# EAGLE library part 615032243321 (library 632723100011_Eagle_WR-USB_rev19b)
WR-MJ Horizontal Shielded 2 x Dual Stacked Port with EMI Panel Finger 8P8C M. Jack Tab Up & Down, 32 Pins=>Code : Con_I-O_MJ-H_Shielded_Up-Down_615032243321 <http://katalog.we-online.de/media/images/eican/Con_I-O_MJ-H_Shielded_Up-Down_615032243321_pf2.jpg> Details see: http://katalog.we-online.de/en/em/MJ_HORIZONTAL_SHIELDED_2X_DUAL_STACKED_PORT_EMI_FINGER_8P8C_TAB_UP_DOWN Created 2014-07-10, Karrer Zheng 2014 (C) Würth Elektronik
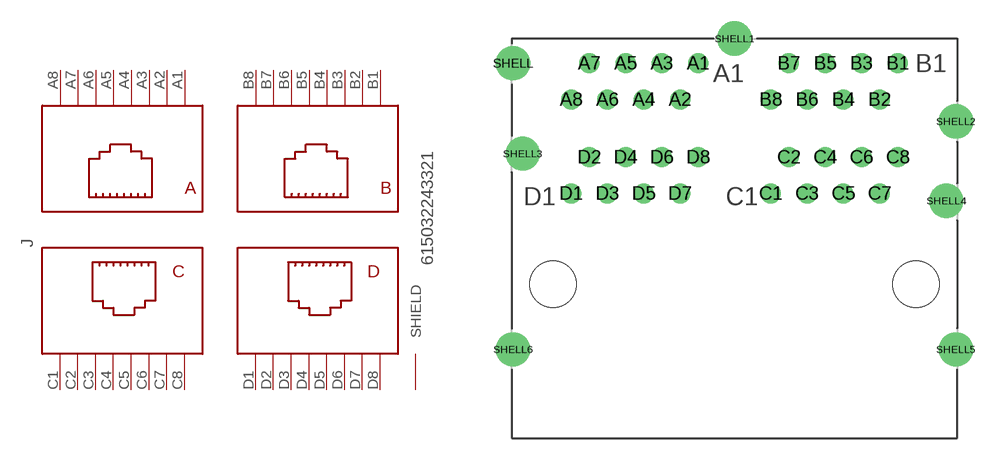
[diagram p132: symbol with the pads of 615032243321; footprint 615032243321]

Designator prefix J

## 615032243321  [615032243321]
A1  A8  pas
A2  A7  pas
A3  A6  pas
A4  A5  pas
A5  A4  pas
A6  A3  pas
A7  A2  pas
A8  A1  pas
B1  B8  pas
B2  B7  pas
B3  B6  pas
B4  B5  pas
B5  B4  pas
B6  B3  pas
B7  B2  pas
B8  B1  pas
C1  C8  pas
C2  C7  pas
C3  C6  pas
C4  C5  pas
C5  C4  pas
C6  C3  pas
C7  C2  pas
C8  C1  pas
D1  D8  pas
D2  D7  pas
D3  D6  pas
D4  D5  pas
D5  D4  pas
D6  D3  pas
D7  D2  pas
D8  D1  pas
SHELL  SHIELD  pas
SHELL1  SHIELD  pas
SHELL2  SHIELD  pas
SHELL3  SHIELD  pas
SHELL4  SHIELD  pas
SHELL5  SHIELD  pas
SHELL6  SHIELD  pas

## Footprint 615032243321 (pad centres in mm)
WR-MJ Horizontal Shielded 2 x Dual Stacked Port with EMI Panel Finger 8P8C M. Jack Tab Up & Down, 32 Pins
drill 0.89: A1 -2.54,15.47; A2 -3.81,12.93; A3 -5.08,15.47; A4 -6.35,12.93; A5 -7.62,15.47; A6 -8.89,12.93; A7 -10.16,15.47; A8 -11.43,12.93; B1 11.43,15.47; B2 10.16,12.93; B3 8.89,15.47; B4 7.62,12.93; B5 6.35,15.47; B6 5.08,12.93; B7 3.81,15.47; B8 2.54,12.93; C1 2.54,6.35; C2 3.81,8.89; C3 5.08,6.35; C4 6.35,8.89; C5 7.62,6.35; C6 8.89,8.89; C7 10.16,6.35; C8 11.43,8.89; D1 -11.43,6.35; D2 -10.16,8.89; D3 -8.89,6.35; D4 -7.62,8.89; D5 -6.35,6.35; D6 -5.08,8.89; D7 -3.81,6.35; D8 -2.54,8.89
drill 1.6: SHELL -15.495,15.47; SHELL1 0,17.2; SHELL2 15.495,11.4; SHELL3 -14.82,9.14; SHELL4 14.82,5.84; SHELL5 15.495,-4.57; SHELL6 -15.495,-4.57
hole 3.25 at -12.7,0
hole 3.25 at 12.7,0